# EAGLE library part HIROSE-FX2-100S-1.27DS (library cdp)
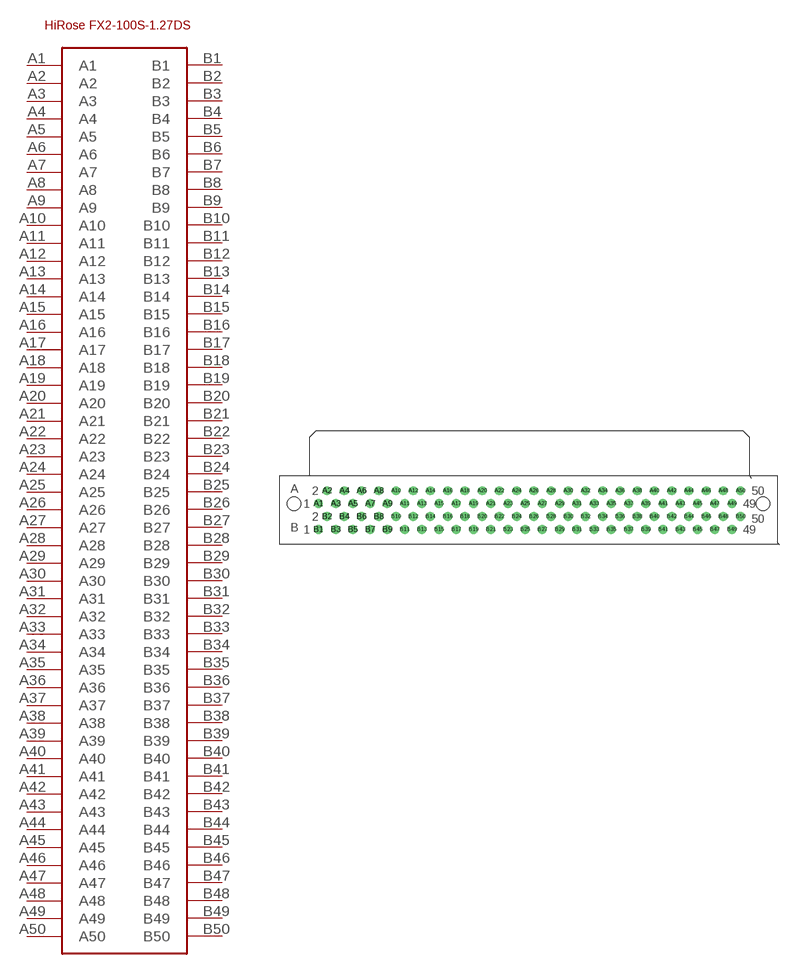
[diagram p6: symbol with the pads of HIROSE-FX2-100; footprint HIROSE-FX2-100]

Designator prefix -

## HIROSE-FX2-100S-1.27DS  [HIROSE-FX2-100]
A1  A1
A2  A2
A3  A3
A4  A4
A5  A5
A6  A6
A7  A7
A8  A8
A9  A9
A10  A10
A11  A11
A12  A12
A13  A13
A14  A14
A15  A15
A16  A16
A17  A17
A18  A18
A19  A19
A20  A20
A21  A21
A22  A22
A23  A23
A24  A24
A25  A25
A26  A26
A27  A27
A28  A28
A29  A29
A30  A30
A31  A31
A32  A32
A33  A33
A34  A34
A35  A35
A36  A36
A37  A37
A38  A38
A39  A39
A40  A40
A41  A41
A42  A42
A43  A43
A44  A44
A45  A45
A46  A46
A47  A47
A48  A48
A49  A49
A50  A50
B1  B1
B2  B2
B3  B3
B4  B4
B5  B5
B6  B6
B7  B7
B8  B8
B9  B9
B10  B10
B11  B11
B12  B12
B13  B13
B14  B14
B15  B15
B16  B16
B17  B17
B18  B18
B19  B19
B20  B20
B21  B21
B22  B22
B23  B23
B24  B24
B25  B25
B26  B26
B27  B27
B28  B28
B29  B29
B30  B30
B31  B31
B32  B32
B33  B33
B34  B34
B35  B35
B36  B36
B37  B37
B38  B38
B39  B39
B40  B40
B41  B41
B42  B42
B43  B43
B44  B44
B45  B45
B46  B46
B47  B47
B48  B48
B49  B49
B50  B50

## Footprint HIROSE-FX2-100 (pad centres in mm)
drill 0.8 round: A1 -44.45,6.985; A2 -43.18,8.89; A3 -41.91,6.985; A4 -40.64,8.89; A5 -39.37,6.985; A6 -38.1,8.89; A7 -36.83,6.985; A8 -35.56,8.89; A9 -34.29,6.985; A10 -33.02,8.89; A11 -31.75,6.985; A12 -30.48,8.89; A13 -29.21,6.985; A14 -27.94,8.89; A15 -26.67,6.985; A16 -25.4,8.89; A17 -24.13,6.985; A18 -22.86,8.89; A19 -21.59,6.985; A20 -20.32,8.89; A21 -19.05,6.985; A22 -17.78,8.89; A23 -16.51,6.985; A24 -15.24,8.89; A25 -13.97,6.985; A26 -12.7,8.89; A27 -11.43,6.985; A28 -10.16,8.89; A29 -8.89,6.985; A30 -7.62,8.89; A31 -6.35,6.985; A32 -5.08,8.89; A33 -3.81,6.985; A34 -2.54,8.89; A35 -1.27,6.985; A36 0,8.89; A37 1.27,6.985; A38 2.54,8.89; A39 3.81,6.985; A40 5.08,8.89; A41 6.35,6.985; A42 7.62,8.89; A43 8.89,6.985; A44 10.16,8.89; A45 11.43,6.985; A46 12.7,8.89; A47 13.97,6.985; A48 15.24,8.89; A49 16.51,6.985; A50 17.78,8.89; B1 -44.45,3.175; B2 -43.18,5.08; B3 -41.91,3.175; B4 -40.64,5.08; B5 -39.37,3.175; B6 -38.1,5.08; B7 -36.83,3.175; B8 -35.56,5.08; B9 -34.29,3.175; B10 -33.02,5.08; B11 -31.75,3.175; B12 -30.48,5.08; B13 -29.21,3.175; B14 -27.94,5.08; B15 -26.67,3.175; B16 -25.4,5.08; B17 -24.13,3.175; B18 -22.86,5.08; B19 -21.59,3.175; B20 -20.32,5.08; B21 -19.05,3.175; B22 -17.78,5.08; B23 -16.51,3.175; B24 -15.24,5.08; B25 -13.97,3.175; B26 -12.7,5.08; B27 -11.43,3.175; B28 -10.16,5.08; B29 -8.89,3.175; B30 -7.62,5.08; B31 -6.35,3.175; B32 -5.08,5.08; B33 -3.81,3.175; B34 -2.54,5.08; B35 -1.27,3.175; B36 0,5.08; B37 1.27,3.175; B38 2.54,5.08; B39 3.81,3.175; B40 5.08,5.08; B41 6.35,3.175; B42 7.62,5.08; B43 8.89,3.175; B44 10.16,5.08; B45 11.43,3.175; B46 12.7,5.08; B47 13.97,3.175; B48 15.24,5.08; B49 16.51,3.175; B50 17.78,5.08
hole 2 at 21.09,6.984
hole 2 at -48.032,6.985